# Altium footprint library IoT-A28LI V1.00.PcbLib: 55 footprints (part 2 of 4)
Each footprint in its own frame and in the unit in brackets; x right, y up, seen from the top. Pads: shape width x height; smd on the part's side, far side on the other; paste and mask are expansions set on the pad; w line width, h text height; cw(c..) or ccw(c..) is an arc to the next point about the centre after c.
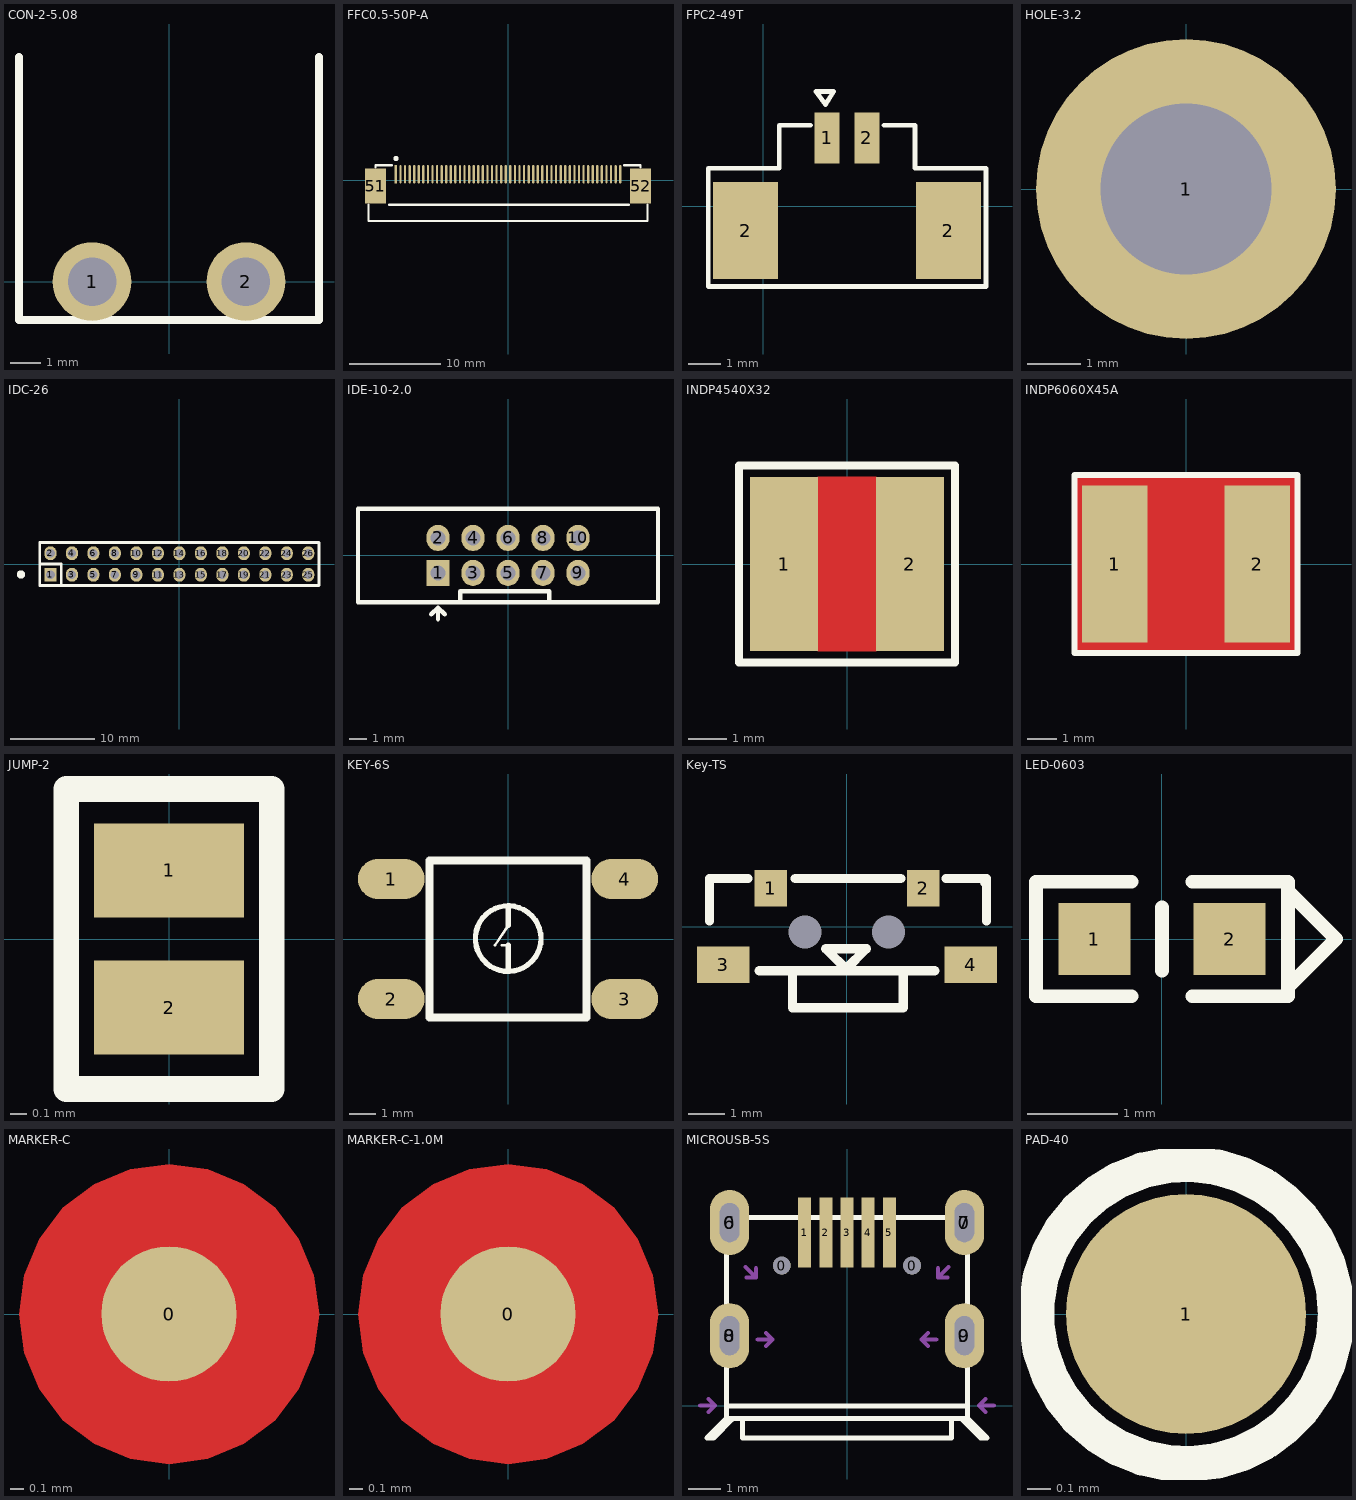
[diagram p1: the footprints below, top view; thin cyan lines are the x and y axes]

## CON-2-5.08 [mm]
pads (2):
  round 2.6 hole 1.6: 1(-2.54,0) 2(2.54,0)
Top Overlay:
  lines w0.254: -4.953,7.417 -4.953,-1.27 4.953,-1.27 4.953,7.417

## FFC0.5-50P-A [mm]
pads (52):
  rect 0.25x2 smd: 1(-12.246,0.645)
  oval 0.25x2 smd: 2(-11.746,0.645) 3(-11.246,0.645) 4(-10.746,0.645) 5(-10.246,0.645) 6(-9.746,0.645) 7(-9.246,0.645) 8(-8.746,0.645) 9(-8.246,0.645) 10(-7.746,0.645) 11(-7.246,0.645) 12(-6.746,0.645) 13(-6.246,0.645) 14(-5.746,0.645) 15(-5.246,0.645) 16(-4.746,0.645) 17(-4.246,0.645) 18(-3.746,0.645) 19(-3.246,0.645) 20(-2.746,0.645) 21(-2.246,0.645) 22(-1.746,0.645) 23(-1.246,0.645) 24(-0.746,0.645) 25(-0.246,0.645) 26(0.254,0.645) 27(0.754,0.645) 28(1.254,0.645) 29(1.754,0.645) 30(2.254,0.645) 31(2.754,0.645) 32(3.254,0.645) 33(3.754,0.645) 34(4.254,0.645) 35(4.754,0.645) 36(5.254,0.645) 37(5.754,0.645) 38(6.254,0.645) 39(6.754,0.645) 40(7.254,0.645) 41(7.754,0.645) 42(8.254,0.645) 43(8.754,0.645) 44(9.254,0.645) 45(9.754,0.645) 46(10.254,0.645) 47(10.754,0.645) 48(11.254,0.645) 49(11.754,0.645) 50(12.254,0.645)
  rect 2.286x3.81 smd: 51(-14.478,-0.645) 52(14.478,-0.645)
Top Overlay:
  circle w0.254: c-12.228,2.362 r0.163
  lines w0.254: -15.24,-2.677 -15.24,-4.455 15.24,-4.455 15.24,-2.677 ; -14.478,1.387 -14.478,1.641 -12.7,1.641 ; -12.954,-2.677 13.208,-2.677 ; 12.7,1.641 14.478,1.641 14.478,1.387

## FPC2-49T [mil]
pads (4):
  rect 31x63 smd: 1(78.58,84.25) 2(127.79,84.25)
  rect 80x120 smd: 2(-21.82,-29.93) 2(228.18,-29.93)
Top Overlay:
  lines w5.91: 58.1,99.99 19.72,99.99 19.72,46.85 -67.88,46.85 -67.88,-98.82 274.64,-98.82 274.64,46.85 187.04,46.85 187.04,99.99 148.66,99.99 ; 64.99,141.33 76.81,125.59 86.65,141.33 64.99,141.33

## HOLE-3.2 [mm]
pads (1):
  round 5.6 hole 3.2: 1(0,0)

## IDC-26 [mil]
pads (26):
  rect 56x65 hole 40: 1(-600,-50)
  oval 56x65 hole 40: 2(-600,50) 3(-500,-50) 4(-500,50) 5(-400,-50) 6(-400,50) 7(-300,-50) 8(-300,50) 9(-200,-50) 10(-200,50) 11(-100,-50) 12(-100,50) 13(0,-50) 14(0,50) 15(100,-50) 16(100,50) 17(200,-50) 18(200,50) 19(300,-50) 20(300,50) 21(400,-50) 22(400,50) 23(500,-50) 24(500,50) 25(600,-50) 26(600,50)
Top Overlay:
  circle w20: c-737.22,-48.6 r9.22
  lines w12: -650,0 -550,0 -550,-100 ; -650,-100 -650,100 650,100 650,-100 -650,-100
3D body: height 298.43, standoff -115.75, extent 550,0 650,100
3D body: height 298.43, standoff -115.75, extent 550,-100 650,0
3D body: height 298.43, standoff -115.75, extent 350,0 450,100
3D body: height 298.43, standoff -115.75, extent 450,0 550,100
3D body: height 298.43, standoff -115.75, extent 350,-100 450,0
3D body: height 298.43, standoff -115.75, extent 450,-100 550,0
3D body: height 298.43, standoff -115.75, extent 150,0 250,100
3D body: height 298.43, standoff -115.75, extent 250,0 350,100
3D body: height 298.43, standoff -115.75, extent 150,-100 250,0
3D body: height 298.43, standoff -115.75, extent 250,-100 350,0
3D body: height 298.43, standoff -115.75, extent -50,0 50,100
3D body: height 298.43, standoff -115.75, extent 50,0 150,100
3D body: height 298.43, standoff -115.75, extent -50,-100 50,0
3D body: height 298.43, standoff -115.75, extent 50,-100 150,0
3D body: height 298.43, standoff -115.75, extent -250,0 -150,100
3D body: height 298.43, standoff -115.75, extent -150,0 -50,100
3D body: height 298.43, standoff -115.75, extent -250,-100 -150,0
3D body: height 298.43, standoff -115.75, extent -150,-100 -50,0
3D body: height 298.43, standoff -115.75, extent -450,0 -350,100
3D body: height 298.43, standoff -115.75, extent -350,0 -250,100
3D body: height 298.43, standoff -115.75, extent -450,-100 -350,0
3D body: height 298.43, standoff -115.75, extent -350,-100 -250,0
3D body: height 298.43, standoff -115.75, extent -650,0 -550,100
3D body: height 298.43, standoff -115.75, extent -550,0 -450,100
3D body: height 298.43, standoff -115.75, extent -650,-100 -550,0
3D body: height 298.43, standoff -115.75, extent -550,-100 -450,0

## IDE-10-2.0 [mm]
pads (10):
  rect 1.3x1.5 hole 0.85: 1(-4,-1)
  oval 1.3x1.5 hole 0.85: 2(-4,1) 3(-2,-1) 4(-2,1) 5(0,-1) 6(0,1) 7(2,-1) 8(2,1) 9(4,-1) 10(4,1)
Top Overlay:
  lines w0.254: -4.381,-3.362 -4,-2.981 ; -4,-3.642 -4,-2.981 ; -3.619,-3.362 -4,-2.981 ; -2.73,-2.667 -2.73,-2.032 2.35,-2.032 2.35,-2.667 ; -8.572,-2.667 -8.572,2.667 8.572,2.667 8.572,-2.667 -8.572,-2.667

## INDP4540X32 [mm]
pads (2):
  rect 1.75x4.5 smd: 1(-1.625,0) 2(1.625,0)
Top Layer:
  pour cut-out: -0.75,-2.25 0.75,-2.25 0.75,2.25 -0.75,2.25
Top Overlay:
  lines w0.203: -2.794,-2.54 2.794,-2.54 2.794,2.54 -2.794,2.54 -2.794,-2.54
Mechanical 15:
  lines w0.051: -0.635,0 0,0 ; 0,-0.635 0,0 ; 0,0.635 0,0 ; 0.635,0 0,0 ; -2.25,-2 -2.25,2 2.25,2 2.25,-2 -2.25,-2

## INDP6060X45A [mm]
pads (2):
  rect 2.2x5.3 smd: 1(-2.4,0) 2(2.4,0)
Top Layer:
  pour cut-out: -3.75,3 3.75,3 3.75,-3 -3.75,-3
Top Overlay:
  lines w0.203: -3.75,-3 3.75,-3 3.75,3 -3.75,3 -3.75,-3
Mechanical 15:
  lines w0.051: -0.635,0 0,0 ; 0,-0.635 0,0 ; 0,0.635 0,0 ; 0.635,0 0,0 ; -3.75,-3 -3.75,3 3.75,3 3.75,-3 -3.75,-3
3D body: height 4.5, standoff 0, extent -2.991,-2.997 2.997,2.979

## JUMP-2 [mil]
pads (2):
  rect 35x22 smd paste-23.62: 1(0,16) 2(0,-16)
Top Overlay:
  lines w6: -24,-35 -24,35 24,35 24,-35 -24,-35

## KEY-6S [mil]
pads (4):
  oval 100x60 smd: 1(-175,90) 2(-175,-90) 3(175,-90) 4(175,90)
Top Overlay:
  circle w8: c0.27,0.61 r49.21
  lines w4: -19.42,-9.24 0.27,20.29 ; -9.57,-9.24 0.27,-9.24
  lines w8: 0.27,-48.61 0.27,-9.23 ; 0.27,20.29 0.27,49.82
  lines w12: -118.11,-118.11 118.11,-118.11 118.11,118.11 -118.11,118.11 -118.11,-118.11
3D body: height 267.87, standoff 2.13, extent -200.64,-122.05 200.65,122.05

## Key-TS [mm]
pads (6):
  round 0 hole 0.9 unplated: 0(-1.156,-0.15)
  round 0 hole 0.9: 0(1.144,-0.15)
  rect 0.9x1 smd: 1(-2.1,1.05) 2(2.1,1.05)
  rect 1.45x1 smd: 3(-3.4,-1.05) 4(3.4,-1.05)
Top Overlay:
  lines w0.254: -3.785,0.153 -3.785,1.323 -2.725,1.323 ; -2.413,-1.217 2.413,-1.217 ; -1.499,-1.217 -1.499,-2.233 1.549,-2.233 1.549,-1.217 ; -1.425,1.323 1.475,1.323 ; -0.025,-1.217 -0.025,-1.166 0.533,-0.607 -0.584,-0.607 0.025,-1.217 ; 2.725,1.323 3.835,1.323 3.835,0.153 ; 3.785,1.222 3.81,1.196

## LED-0603 [mm]
pads (2):
  rect 0.8x0.8 smd: 1(-0.75,0) 2(0.75,0)
Top Overlay:
  lines w0.152: -0.337,-0.635 -1.397,-0.635 -1.397,0.635 -0.337,0.635 ; 0,-0.35 0,0.35 ; 0.337,-0.635 1.397,-0.635 1.397,0.635 0.337,0.635 ; 1.397,-0.533 1.93,0 1.397,0.533
3D body: height 0.3, standoff 0, extent -0.8,-0.4 0.8,0.4
3D body: height 0.4, standoff 0, extent -0.5,-0.403 0.5,0.403

## MARKER-C [mm]
pads (1):
  round 1 smd paste-1.016 mask+0.5: 0(0,0)
Top Layer:
  pour cut-out: -1.109,0 -1.072,-0.287 -0.961,-0.555 -0.785,-0.785 -0.555,-0.961 -0.287,-1.072 0,-1.109 0.287,-1.072 0.555,-0.961 0.785,-0.785 0.961,-0.555 1.072,-0.287 1.109,0 1.072,0.287 0.961,0.555 0.785,0.785 0.555,0.961 0.287,1.072 0,1.109 -0.287,1.072 -0.555,0.961 -0.785,0.785 -0.961,0.555 -1.072,0.287

## MARKER-C-1.0M [mm]
pads (1):
  round 1 smd paste-1.016 mask+0.5: 0(0,0)
Top Layer:
  pour cut-out: -1.109,0 -1.072,-0.287 -0.961,-0.555 -0.785,-0.785 -0.555,-0.961 -0.287,-1.072 0,-1.109 0.287,-1.072 0.555,-0.961 0.785,-0.785 0.961,-0.555 1.072,-0.287 1.109,0 1.072,0.287 0.961,0.555 0.785,0.785 0.555,0.961 0.287,1.072 0,1.109 -0.287,1.072 -0.555,0.961 -0.785,0.785 -0.961,0.555 -1.072,0.287

## MICROUSB-5S [mm]
pads (15):
  oval 1.2x2 on Top Paste: 0(-3.6,2.15) 0(-3.6,5.62) 0(3.6,2.15) 0(3.6,5.62)
  round 0.54 hole 0.55 unplated: 0(-2,4.3) 0(2,4.3)
  rect 0.4x2.15 smd: 1(-1.3,5.31) 2(-0.65,5.31) 3(0,5.31) 4(0.65,5.31) 5(1.3,5.31)
  oval 1.2x2 hole 0.6 slot 1.2 at 90 deg: 6(-3.6,5.62) 7(3.6,5.62) 8(-3.6,2.15) 9(3.6,2.15)
Top Overlay:
  lines w0.152: -3.7,0 3.7,0 ; -3.7,0.012 -3.7,5.77 3.7,5.77 3.7,0.012 ; -3.7,0.062 -3.7,-0.388 ; -3.5,-0.398 -4.09,-0.988 -4.3,-0.988 -3.7,-0.388 ; -3.2,-0.388 -3.2,-0.988 3.2,-0.988 3.2,-0.388 ; 3.5,-0.388 4.1,-0.988 4.3,-0.988 3.7,-0.388 ; 3.7,0.062 3.7,-0.388 ; -3.7,-0.388 3.7,-0.388
Mechanical 15:
  lines w0.127: -4.5,0.012 -4.05,0.012 ; -4.25,-0.188 -4.05,0.012 ; -4.25,0.212 -4.05,0.012 ; -3.112,4.255 -2.794,3.937 ; -3.077,3.937 -2.794,3.937 ; -2.794,4.22 -2.794,3.937 ; -2.736,2.032 -2.286,2.032 ; -2.486,1.832 -2.286,2.032 ; -2.486,2.232 -2.286,2.032 ; 2.486,1.832 2.286,2.032 ; 2.486,2.232 2.286,2.032 ; 2.736,2.032 2.286,2.032 ; 2.794,4.22 2.794,3.937 ; 3.077,3.937 2.794,3.937 ; 3.112,4.255 2.794,3.937 ; 4.25,-0.188 4.05,0.012 ; 4.25,0.212 4.05,0.012 ; 4.5,0.012 4.05,0.012
  text "PCB EDGE" at -3,0.212 h0.91
  text "TopPaste" at -2.794,2.667 h0.91

## PAD-40 [mil]
pads (1):
  round 40 smd paste-43.31: 1(0,0)
Top Overlay:
  circle w6: c0,0 r25